# Altium integrated library Transformer.IntLib: 13 symbols
Pins are listed as number, name and electrical type; pins without a type are passive.

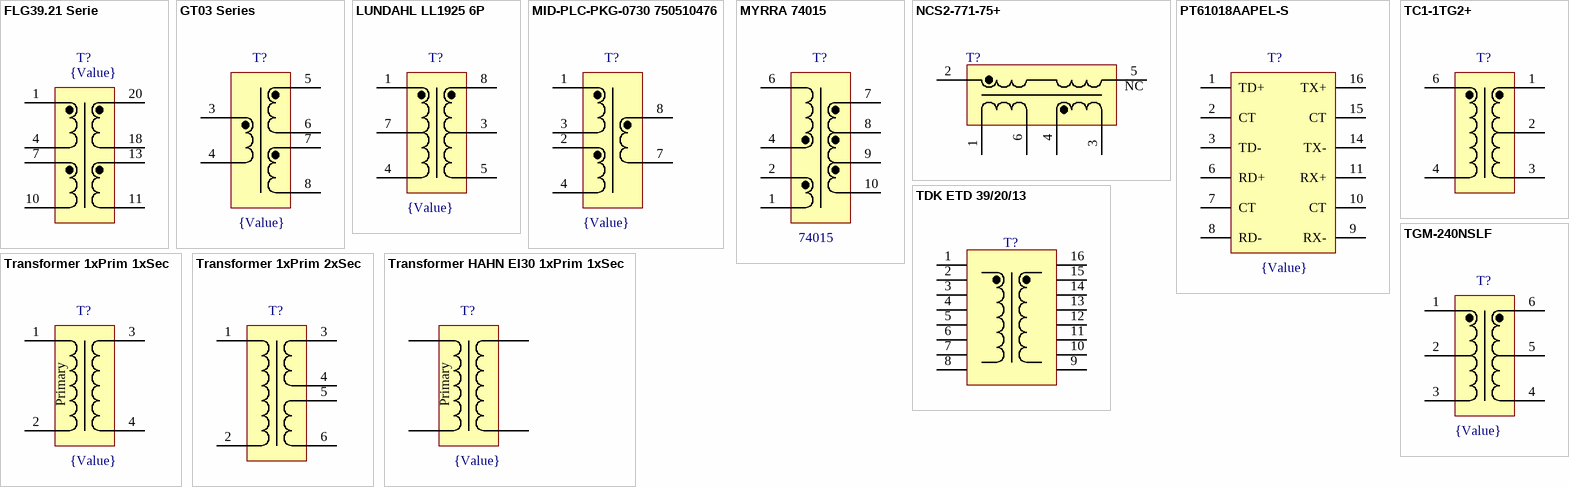
[diagram p0: symbols FLG39.21 Serie to Transformer HAHN EI30 1xPrim 1xSec]

## FLG39.21 Serie
designator T?, comment {Value}
Transformer UI39.21; Value: {Value}
footprint FLG39.21 (TRANSFORMER UI39.21)
pins: 1, 4, 7, 10, 11, 13, 18, 20

## GT03 Series
designator T?, comment {Value}
Gate Drive Transformer; Value: {Value}
footprint GT03 Serie Transformer (Gate Drive Transformer)
pins: 3, 4, 5, 6, 7, 8

## LUNDAHL LL1925 6P
designator T?, comment {Value}
Video Isolation Transformer LL1925; Value: {Value}
footprint LUNDAHL LL1925
pins: 1, 3, 4, 5, 7, 8

## MID-PLC-PKG-0730 750510476
designator T?, comment {Value}
Wurth Audio / Signal Transformer; Value: {Value}
footprint MID-PLC-PKG-0730 750510476 (Wurth Audio / Signal Transformer)
pins: 1, 2, 3, 4, 7, 8

## MYRRA 74015
designator T?, comment 74015
Flyback Transformer; Manufacturer: Myrra; Value: 74015; Farnell No.: 1501046
footprint MYRRA 74015 (MYRRA E16 TRANSFORMER)
pins: 1 0V, 2 +AUX, 4 DRAIN, 6 E+, 7 +S3, 8 +S2, 9 +S1, 10 0V

## NCS2-771-75+
designator T?, comment {Value}  (value not drawn)
Mini-Circuits RF Transformer; Value: {Value}
footprint NCS2-771-75+ (Mini-Circuits RF Transformer)
pins: 1, 2, 3, 4, 5, 6
text: NC

## PT61018AAPEL-S
designator T?, comment {Value}
10/100 Base-T Transformer; Value: {Value}
footprint PT61018AAPEL-S (Transformer C12.80x6.90 H5.65)
pins: 1 TD+, 2 CT, 3 TD-, 6 RD+, 7 CT, 8 RD-, 9 RX-, 10 CT, 11 RX+, 14 TX-, 15 CT, 16 TX+

## TC1-1TG2+
designator T?, comment {Value}  (value not drawn)
Mini-Circuits RF Transformer; Value: {Value}
footprint TC1-1TG2+ (Mini-Circuits RF Transformer)
pins: 1, 2, 3, 4, 6

## TDK ETD 39/20/13
designator T?  (value not drawn)
Value: TDK ETD 39/20/13
footprint TDK ETD 39/20/13 (TDK ETD 39/20/13, C44.60x46.8, Height 35.5)
pins: 1, 2, 3, 4, 5 6, 6, 7, 8, 9, 10, 11, 12, 13, 14, 15, 16

## TGM-240NSLF
designator T?, comment {Value}
HALO Impulstransformatoren ISO MOD SMD GullWing 1.5kVrms 0.8Ohm 6pin; Value: {Value}
footprint TRF SOL6 Halo TGM-___NSLF (Impulstransformatoren ISO MOD SMD GullWing 1.5kVrms 0.8Ohm 6pin)
pins: 1, 2, 3, 4, 5, 6

## Transformer 1xPrim 1xSec
designator T?, comment {Value}
Generic Transformer 1xPrim 1xSec; Value: {Value}
footprint Block VB0.5/1/_ (Short circuit proof PCB transformer VB Range)
footprint EI382 11__ (TRANSFORMER EI382 11__); pin to pad 2>5 3>9 4>7
footprint VB42.14 (Transformer – Type VN – encapsulated minimal height)
footprint YHDC_TIF-xxx (High Frequency Ignition Transformer)
pins: 1, 2, 3, 4
text: Primary

## Transformer 1xPrim 2xSec
designator T?, comment {Value}  (value not drawn)
Generic Transformer 1xPrim 2xSec; Value: {Value}
footprint Block PT30/2/12 (Transformer Block Input 230Vac Output 2x12Vac)
pins: 1, 2, 3, 4, 5, 6

## Transformer HAHN EI30 1xPrim 1xSec
designator T?, comment {Value}
Transformer HAHN EI30 1xPrim 1xSec; Value: {Value}
footprint EI30/H10.5 (Transformer 32.5X27.5mm Height 23)
pins: 1, 5, 7, 9
text: Primary